# Altium footprint library Aux Daq Simplified.PcbLib: 17 footprints (part 1 of 2)
Each footprint in its own frame and in the unit in brackets; x right, y up, seen from the top. Pads: shape width x height; smd on the part's side, far side on the other; paste and mask are expansions set on the pad; w line width, h text height; cw(c..) or ccw(c..) is an arc to the next point about the centre after c.
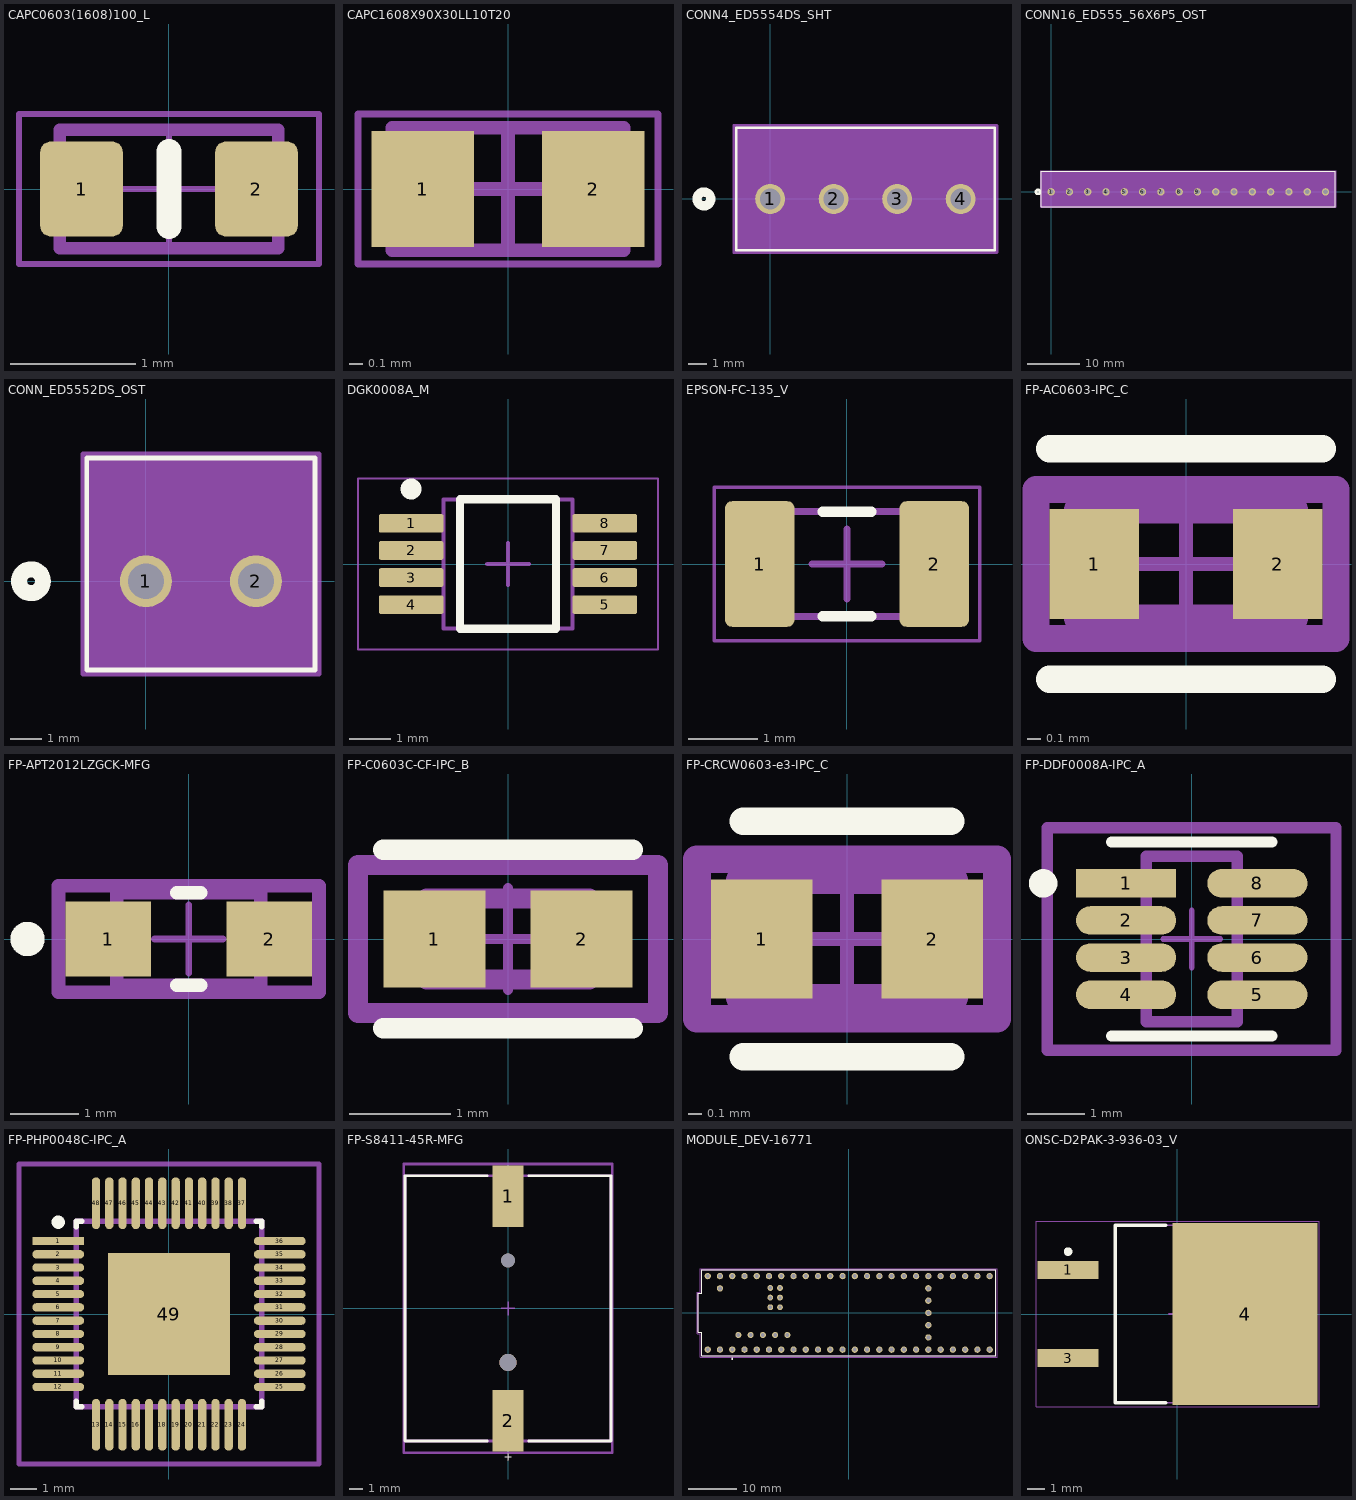
[diagram p0: the footprints below, top view; thin cyan lines are the x and y axes]

## CAPC0603(1608)100_L [mm]
pads (2):
  rrect25% 0.66x0.76 smd: 1(-0.7,0) 2(0.7,0)
Top Overlay:
  lines w0.2: 0,-0.3 0,0.3
Top Assembly:
  lines w0.1: -0.875,-0.475 -0.875,0.475 0.875,0.475 0.875,-0.475 -0.875,-0.475
Top Courtyard:
  lines w0.05: -0.475,0 0.475,0 ; 0,-0.475 0,0.475 ; -1.2,-0.6 1.2,-0.6 1.2,0.6 -1.2,0.6 -1.2,-0.6
Top Designator:
  text ".Designator" at -1.27,-0.127 h0.6
3D body "CAPC1608X95N EIA 0603.STEP": height 0.95, standoff 0, extent -0.8,-0.4 0.8,0.4

## CAPC1608X90X30LL10T20 [mm]
pads (2):
  rect 0.75x0.85 smd: 1(-0.625,0) 2(0.625,0)
Top Assembly:
  lines w0.1: -0.85,-0.45 -0.85,0.45 0.85,0.45 0.85,-0.45 -0.85,-0.45
Top Courtyard:
  lines w0.05: -1.1,-0.55 -1.1,0.55 1.1,0.55 1.1,-0.55 -1.1,-0.55
  lines w0.1: -0.45,0 0.45,0 ; 0,-0.45 0,0.45
3D body "CAPC1608X09L.step": height 0.9, standoff 0, extent -0.85,-0.45 0.85,0.45

## CONN4_ED5554DS_SHT [mil]
pads (4):
  round 65 / inner round 60 / far side round 65 hole 45 paste-99999 mask+0: 1(0,0) 2(137.79,0) 3(275.59,0) 4(413.39,0)
Top Overlay:
  circle w20: c-143.81,0 r15
  lines w6: -73.81,-111.39 487.19,-111.39 487.19,154.61 -73.81,154.61 -73.81,-111.39
Bottom Overlay:
  circle w20: c-143.81,0 r15
Top Assembly:
  circle w20: c0,75 r15
  lines w1: -68.81,-106.39 482.19,-106.39 482.19,149.61 -68.81,149.61 -68.81,-106.39
Top Courtyard:
  region: 492.19,159.61 -78.81,159.61 -78.81,-116.39 492.19,-116.39
  lines w6: -78.81,-116.39 -78.81,159.61 492.19,159.61 492.19,-116.39 -78.81,-116.39

## CONN16_ED555_56X6P5_OST [mil]
pads (16):
  round 55 / inner round 60 / far side round 55 hole 35 paste-99999 mask+0: 1(0,0) 2(137.79,0) 3(275.59,0) 4(413.39,0) 5(551.18,0) 6(688.98,0) 7(826.77,0) 8(964.57,0) 9(1102.36,0) 10(1240.16,0) 11(1377.95,0) 12(1515.75,0) 13(1653.54,0) 14(1791.34,0) 15(1929.13,0) 16(2066.93,0)
Top Overlay:
  circle w20: c-99.03,0 r15
  lines w6: -74.04,-111.39 2140.96,-111.39 2140.96,154.61 -74.04,154.61 -74.04,-111.39
Bottom Overlay:
  circle w20: c-99.03,0 r15
Top Assembly:
  circle w20: c0,75 r15
  lines w1: -69.04,-106.39 2135.96,-106.39 2135.96,149.61 -69.04,149.61 -69.04,-106.39
Top Courtyard:
  region: 2145.97,159.61 -79.03,159.61 -79.03,-116.39 2145.97,-116.39
  lines w6: -79.04,-116.39 -79.04,159.61 2145.96,159.61 2145.96,-116.39 -79.04,-116.39

## CONN_ED5552DS_OST [mil]
pads (2):
  round 65 / inner round 60 / far side round 65 hole 45 paste-99999 mask+0: 1(0,0) 2(137.8,0)
Top Overlay:
  circle w20: c-144.1,0 r15
  lines w6: -74.1,-111.39 211.9,-111.39 211.9,154.61 -74.1,154.61 -74.1,-111.39
Bottom Overlay:
  circle w20: c-144.1,0 r15
Top Assembly:
  circle w20: c0,75 r15
  lines w1: -69.1,-106.39 206.9,-106.39 206.9,149.61 -69.1,149.61 -69.1,-106.39
Top Courtyard:
  region: 216.9,159.61 -79.1,159.61 -79.1,-116.39 216.9,-116.39
  lines w6: -79.1,-116.39 -79.1,159.61 216.9,159.61 216.9,-116.39 -79.1,-116.39

## DGK0008A_M [mm]
pads (8):
  rrect22% 1.55x0.45 smd: 1(-2.325,0.975) 2(-2.325,0.325) 3(-2.325,-0.325) 4(-2.325,-0.975) 5(2.325,-0.975) 6(2.325,-0.325) 7(2.325,0.325) 8(2.325,0.975)
Top Overlay:
  circle w0.25: c-2.325,1.8 r0.125
  lines w0.2: -1.15,-1.55 -1.15,1.55 1.15,1.55 1.15,-1.55 -1.15,-1.55
Mechanical 1:
  text ".Designator" at -1.397,-0.254 h0.7
Top Assembly:
  lines w0.1: -1.55,-1.55 -1.55,1.55 1.55,1.55 1.55,-1.55 -1.55,-1.55
Top Courtyard:
  lines w0.05: -3.6,-2.05 -3.6,2.05 3.6,2.05 3.6,-2.05 -3.6,-2.05
  lines w0.1: -0.5,0 0.5,0 ; 0,-0.5 0,0.5
3D body "MUY08A_ASM.stp": height 0.94, standoff -0.02, extent -2.451,-1.499 2.451,1.499

## EPSON-FC-135_V [mm]
pads (2):
  rrect20% 1x1.8 smd: 1(-1.25,0) 2(1.25,0)
Top Overlay:
  lines w0.15: -0.35,-0.75 0.35,-0.75 ; -0.35,0.75 0.35,0.75
Top Assembly:
  lines w0.1: -1.6,-0.75 -1.6,0.75 1.6,0.75 1.6,-0.75 -1.6,-0.75
Top Courtyard:
  lines w0.05: -1.9,-1.1 1.9,-1.1 1.9,1.1 -1.9,1.1 -1.9,-1.1
  lines w0.1: -0.5,0 0.5,0 ; 0,-0.5 0,0.5
Top Designator:
  text ".Designator" at -1.27,-0.127 h0.6
3D body: height 0.7, standoff 0, extent -1.6,-0.75 1.6,0.75
3D body: height 0.9, standoff 0, extent -1.45,-0.75 1.45,0.75

## FP-AC0603-IPC_C [mm]
pads (2):
  rect 0.659x0.812 smd paste+0 mask+0: 1(-0.677,0) 2(0.677,0)
Top Overlay:
  lines w0.2: -1.006,-0.85 1.006,-0.85 ; -1.006,0.85 1.006,0.85
Top Component Center:
  lines w0.1: -0.5,0 0.5,0 ; 0,-0.5 0,0.5
Top Assembly:
  lines w0.2: -1.106,-0.55 1.106,-0.55 1.106,0.55 -1.106,0.55 -1.106,-0.55
  text ".Designator" at 0,0.188 h1
Top Courtyard:
  lines w0.2: -1.106,-0.55 1.106,-0.55 1.106,0.55 -1.106,0.55 -1.106,-0.55
Top 3D Body:
  lines w0.2: -0.8,-0.4 0.8,-0.4 0.8,0.4 -0.8,0.4 -0.8,-0.4
3D body "Res_Yageo_AC0603FR-07180RL_eec.STEP": height 0.25, standoff 0, extent -1.106,-0.55 1.106,0.55

## FP-APT2012LZGCK-MFG [mm]
pads (2):
  rect 1.25x1.1 smd paste+0 mask+0: 1(-1.175,0) 2(1.175,0)
Top Overlay:
  circle w0.25: c-2.35,0 r0.125
  lines w0.2: -0.175,-0.675 0.175,-0.675 ; -0.175,0.675 0.175,0.675
Top Component Center:
  lines w0.1: -0.5,0 0.5,0 ; 0,-0.5 0,0.5
Top Assembly:
  lines w0.2: -1.9,-0.775 1.9,-0.775 1.9,0.775 -1.9,0.775 -1.9,-0.775
  text ".Designator" at 0,-0.001 h1
Top Courtyard:
  lines w0.2: -1.9,-0.775 1.9,-0.775 1.9,0.775 -1.9,0.775 -1.9,-0.775
Top 3D Body:
  lines w0.2: -1.05,-0.675 1.05,-0.675 1.05,0.675 -1.05,0.675 -1.05,-0.675
3D body "Diode_Kingbright_APT2012LZGCK_eec.STEP": height 0.25, standoff 0, extent -1.9,-0.775 1.9,0.775

## FP-C0603C-CF-IPC_B [mm]
pads (2):
  rect 1.007x0.958 smd paste+0 mask+0: 1(-0.726,0) 2(0.726,0)
Top Overlay:
  lines w0.2: -1.229,-0.879 1.229,-0.879 ; -1.229,0.879 1.229,0.879
Top Component Center:
  lines w0.1: -0.5,0 0.5,0 ; 0,-0.5 0,0.5
Top Assembly:
  lines w0.2: -1.479,-0.729 1.479,-0.729 1.479,0.729 -1.479,0.729 -1.479,-0.729
  text ".Designator" at 0,0.188 h1
Top Courtyard:
  lines w0.2: -1.479,-0.729 1.479,-0.729 1.479,0.729 -1.479,0.729 -1.479,-0.729
Top 3D Body:
  lines w0.2: -0.8,-0.4 0.8,-0.4 0.8,0.4 -0.8,0.4 -0.8,-0.4
3D body "Cap_KEMET_C0603C272M5JACTU_eec.STEP": height 0.25, standoff 0, extent -1.479,-0.729 1.479,0.729

## FP-CRCW0603-e3-IPC_C [mm]
pads (2):
  rect 0.735x0.862 smd paste+0 mask+0: 1(-0.615,0) 2(0.615,0)
Top Overlay:
  lines w0.2: -0.75,-0.85 0.75,-0.85 ; -0.75,0.85 0.75,0.85
Top Component Center:
  lines w0.1: -0.5,0 0.5,0 ; 0,-0.5 0,0.5
Top Assembly:
  lines w0.2: -1.083,-0.575 1.083,-0.575 1.083,0.575 -1.083,0.575 -1.083,-0.575
  text ".Designator" at 0,0.188 h1
Top Courtyard:
  lines w0.2: -1.083,-0.575 1.083,-0.575 1.083,0.575 -1.083,0.575 -1.083,-0.575
Top 3D Body:
  lines w0.2: -0.775,-0.425 0.775,-0.425 0.775,0.425 -0.775,0.425 -0.775,-0.425
3D body "Res_Vishay_CRCW06033M90FKEC_eec.STEP": height 0.25, standoff 0, extent -1.083,-0.575 1.083,0.575

## FP-DDF0008A-IPC_A [mm]
pads (8):
  rect 1.757x0.5 smd paste+0 mask+0: 1(-1.151,0.975)
  rrect100% 1.757x0.5 smd paste+0 mask+0: 2(-1.151,0.325) 3(-1.151,-0.325) 4(-1.151,-0.975) 5(1.151,-0.975) 6(1.151,-0.325) 7(1.151,0.325) 8(1.151,0.975)
Top Overlay:
  circle w0.25: c-2.604,0.975 r0.125
  lines w0.2: -1.4,-1.7 1.4,-1.7 ; -1.4,1.7 1.4,1.7
Top Component Center:
  lines w0.1: -0.5,0 0.5,0 ; 0,-0.5 0,0.5
Top Assembly:
  lines w0.2: -2.529,-1.95 2.529,-1.95 2.529,1.95 -2.529,1.95 -2.529,-1.95
  text ".Designator" at 0,0.188 h1
Top Courtyard:
  lines w0.2: -2.529,-1.95 2.529,-1.95 2.529,1.95 -2.529,1.95 -2.529,-1.95
Top 3D Body:
  lines w0.2: -0.8,-1.45 0.8,-1.45 0.8,1.45 -0.8,1.45 -0.8,-1.45
3D body "IC_Texas_Instruments_TLV9002IDDFR_eec.STEP": height 0.25, standoff 0, extent -2.529,-1.95 2.529,1.95

## FP-PHP0048C-IPC_A [mm]
pads (49):
  rect 1.955x0.312 smd paste+0 mask+0: 1(-4.176,2.75)
  rrect100% 1.955x0.312 smd paste+0 mask+0: 2(-4.176,2.25) 3(-4.176,1.75) 4(-4.176,1.25) 5(-4.176,0.75) 6(-4.176,0.25) 7(-4.176,-0.25) 8(-4.176,-0.75) 9(-4.176,-1.25) 10(-4.176,-1.75) 11(-4.176,-2.25) 12(-4.176,-2.75) 25(4.176,-2.75) 26(4.176,-2.25) 27(4.176,-1.75) 28(4.176,-1.25) 29(4.176,-0.75) 30(4.176,-0.25) 31(4.176,0.25) 32(4.176,0.75) 33(4.176,1.25) 34(4.176,1.75) 35(4.176,2.25) 36(4.176,2.75)
  rrect100% 0.312x1.955 smd paste+0 mask+0: 13(-2.75,-4.176) 14(-2.25,-4.176) 15(-1.75,-4.176) 16(-1.25,-4.176) 18(-0.25,-4.176) 19(0.25,-4.176) 20(0.75,-4.176) 21(1.25,-4.176) 22(1.75,-4.176) 23(2.25,-4.176) 24(2.75,-4.176) 37(2.75,4.176) 38(2.25,4.176) 39(1.75,4.176) 40(1.25,4.176) 41(0.75,4.176) 42(0.25,4.176) 43(-0.25,4.176) 44(-0.75,4.176) 45(-1.25,4.176) 46(-1.75,4.176) 47(-2.25,4.176) 48(-2.75,4.176) ""(-0.75,-4.176)
  rect 4.6x4.6 smd paste-1000 mask+0: 49(0,0)
Top Overlay:
  circle w0.25: c-4.175,3.46 r0.125
  lines w0.2: -3.5,-3.281 -3.5,-3.5 -3.281,-3.5 ; -3.5,3.281 -3.5,3.5 -3.281,3.5 ; 3.281,-3.5 3.5,-3.5 3.5,-3.281 ; 3.281,3.5 3.5,3.5 3.5,3.281
Top Paste:
  rectangle: -1.736,0.282 -0.282,1.736
  rectangle: 0.282,0.282 1.736,1.736
  rectangle: -1.736,-1.736 -0.282,-0.282
  rectangle: 0.282,-1.736 1.736,-0.282
Top Component Center:
  lines w0.1: -0.5,0 0.5,0 ; 0,-0.5 0,0.5
Top Assembly:
  lines w0.2: -5.653,-5.653 5.653,-5.653 5.653,5.653 -5.653,5.653 -5.653,-5.653
  text ".Designator" at 0,-0.001 h1
Top Courtyard:
  lines w0.2: -5.653,-5.653 5.653,-5.653 5.653,5.653 -5.653,5.653 -5.653,-5.653
Top 3D Body:
  lines w0.2: -3.5,-3.5 3.5,-3.5 3.5,3.5 -3.5,3.5 -3.5,-3.5
3D body "IC_Texas_Instruments_ADS1258IPHPREP_eec.STEP": height 0.25, standoff 0, extent -5.653,-5.653 5.653,5.653

## FP-S8411-45R-MFG [mm]
pads (4):
  rect 2.3x4.5 smd paste+0 mask+0: 1(0,8.2) 2(0,-8.2)
  round 1.25 hole 1.25 unplated paste-2539.97 mask+0: ""(0,-3.95)
  round 1 hole 1 unplated paste-2539.97 mask+0: ""(0,3.5)
Top Overlay:
  lines w0.2: -1.525,-9.7 -7.525,-9.7 -7.525,9.7 -1.525,9.7 ; 1.525,-9.7 7.525,-9.7 7.525,9.7 1.525,9.7
  text "+" at -0.3,-11.375 h1
Top Component Center:
  lines w0.1: -0.5,0 0.5,0 ; 0,-0.5 0,0.5
Top Assembly:
  lines w0.2: -7.625,-10.55 7.625,-10.55 7.625,10.55 -7.625,10.55 -7.625,-10.55
  text ".Designator" at 0,0.188 h1
Top Courtyard:
  lines w0.2: -7.625,-10.55 7.625,-10.55 7.625,10.55 -7.625,10.55 -7.625,-10.55
Top 3D Body:
  lines w0.2: -7.525,-9.7 7.525,-9.7 7.525,9.7 -7.525,9.7 -7.525,-9.7
3D body "Batt_Harwin_S8411-45R_eec.STEP": height 0.25, standoff 0, extent -7.625,-10.55 7.625,10.55

## MODULE_DEV-16771 [mm]
pads (65):
  round 1.308 hole 0.8: 0(-26.67,-7.62) 1(-24.13,-7.62) 2(-21.59,-7.62) 3(-19.05,-7.62) 3.3V_1(6.35,-7.62) 3.3V_2(-24.13,7.62) 3.3V_3(16.51,-2.54) 4(-16.51,-7.62) 5(-13.97,-7.62) 6(-11.43,-7.62) 7(-8.89,-7.62) 8(-6.35,-7.62) 9(-3.81,-7.62) 10(-1.27,-7.62) 11(1.27,-7.62) 12(3.81,-7.62) 13(3.81,7.62) 14(1.27,7.62) 15(-1.27,7.62) 16(-3.81,7.62) 17(-6.35,7.62) 18(-8.89,7.62) 19(-11.43,7.62) 20(-13.97,7.62) 21(-16.51,7.62) 22(-19.05,7.62) 23(-21.59,7.62) 24(8.89,-7.62) 25(11.43,-7.62) 26(13.97,-7.62) 27(16.51,-7.62) 28(19.05,-7.62) 29(21.59,-7.62) 30(24.13,-7.62) 31(26.67,-7.62) 32(29.21,-7.62) 33(29.21,7.62) 34(26.67,7.62) 35(24.13,7.62) 36(21.59,7.62) 37(19.05,7.62) 38(16.51,7.62) 39(13.97,7.62) 40(11.43,7.62) 41(8.89,7.62) GND1(-29.21,-7.62) GND2(6.35,7.62) GND3(-26.67,7.62) GND4(16.51,0) ON/OFF(16.51,5.08) PROGRAM(16.51,2.54) VBAT(16.51,-5.08) VIN(-29.21,7.62) VUSB(-26.67,5.08)
  round 1.258 hole 0.75: 5V(-22.86,-4.57) D+(-17.78,-4.57) D-(-20.32,-4.57) USB_GND1(-15.24,-4.57) USB_GND2(-12.7,-4.57)
  round 1.208 hole 0.7: GND5(-14.24,3.17) LED(-16.24,3.17) R+(-16.24,5.17) R-(-14.24,5.17) T+(-14.24,1.17) T-(-16.24,1.17)
Top Overlay:
  circle w0.2: c-24.13,-9.5 r0.1
  lines w0.127: -31.18,-4.03 -31.18,4.03 -30.48,4.03 -30.48,8.89 30.48,8.89 30.48,-8.89 -30.48,-8.89 -30.48,-4.03 -31.18,-4.03
Top Assembly:
  circle w0.2: c-24.13,-9.5 r0.1
  lines w0.127: -31.18,-4.03 -31.18,4.03 -30.48,4.03 -30.48,8.89 30.48,8.89 30.48,-8.89 -30.48,-8.89 -30.48,-4.03 -31.18,-4.03
  text "Teensy 4.1" at -0.25,0.34 h1.27
Top Courtyard:
  lines w0.05: -31.43,-4.28 -31.43,4.28 -30.73,4.28 -30.73,9.14 30.73,9.14 30.73,-9.14 -30.73,-9.14 -30.73,-4.28 -31.43,-4.28
3D body "step_temp.STEP": height 7.15, standoff -6.7, extent -31.18,-8.89 30.48,8.89

## ONSC-D2PAK-3-936-03_V [mm]
pads (3):
  rect 3.504x1.016 smd: 1(-6.313,2.54) 3(-6.313,-2.54)
  rect 8.38x10.49 smd: 4(3.9,0)
Top Overlay:
  circle w0.25: c-6.313,3.598 r0.125
  lines w0.2: -0.69,-5.12 -3.6,-5.12 -3.6,5.12 -0.69,5.12
Top Assembly:
  lines w0.1: -3.6,-5.12 -3.6,5.12 5.75,5.12 5.75,-5.12 -3.6,-5.12
Top Courtyard:
  lines w0.05: -8.164,-5.345 -8.164,5.345 8.189,5.345 8.19,-5.345 -8.164,-5.345
  lines w0.1: -0.5,0 0.5,0 ; 0,-0.5 0,0.5
3D body "DPAK254P1420X475-3L.step": height 4.75, standoff 0, extent -6.113,-5.125 8.086,5.125